# EAGLE library part POT,DIGITAL,DUAL (library QuantumOptics)
Digital pot, dual, serial, Analog Devices AD5162
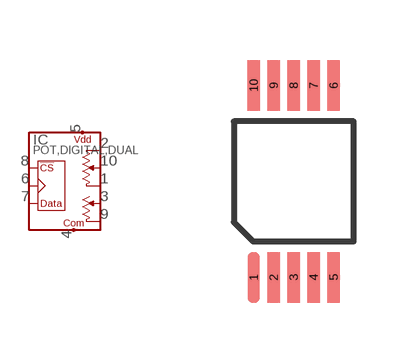
[diagram p167: symbol with the pads of MSOP10; footprint MSOP10]

Designator prefix IC

## POT,DIGITAL,DUAL-MSOP10  [MSOP10]
1  B1
2  A1
3  W2
4  COM
5  VDD
6  CLK  in
7  DATA  in
8  !CS  in
9  B2
10  W1

## Footprint MSOP10 (pad centres in mm)
MSOP-10, JEDEC MO-187AB. Sameas Maxim's µsop-10 and TI's VSSOP DGA (S-PDSO-G10).
smd 0.305 x 1.27: 1 -1,-2.4; 2 -0.5,-2.4; 3 0,-2.4; 4 0.5,-2.4; 5 1,-2.4; 6 1,2.4; 7 0.5,2.4; 8 0,2.4; 9 -0.5,2.4; 10 -1,2.4